# EAGLE library part DRV8833 (library Tranii)
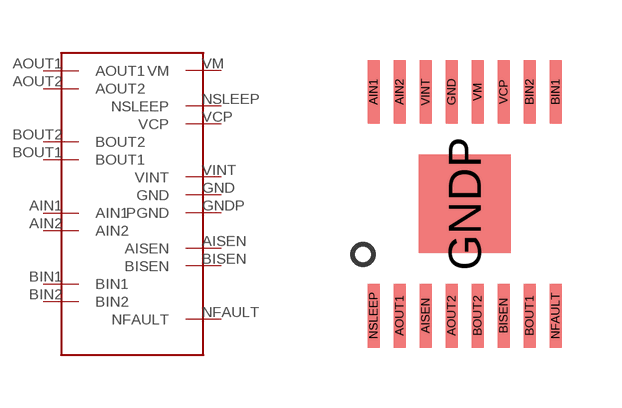
[diagram p1: symbol with the pads of DRV8833; footprint DRV8833]

Designator prefix -

## DRV8833  [DRV8833]
AIN1  AIN1
AIN2  AIN2
AISEN  AISEN
AOUT1  AOUT1
AOUT2  AOUT2
BIN1  BIN1
BIN2  BIN2
BISEN  BISEN
BOUT1  BOUT1
BOUT2  BOUT2
GND  GND
GNDP  PGND
NFAULT  NFAULT
NSLEEP  NSLEEP
VCP  VCP
VINT  VINT
VM  VM

## Footprint DRV8833 (pad centres in mm)
smd 0.3 x 1.6: AIN1 -2.275,2.8; AIN2 -1.625,2.8; AISEN -0.975,-2.8; AOUT1 -1.625,-2.8; AOUT2 -0.325,-2.8; BIN1 2.275,2.8; BIN2 1.625,2.8; BISEN 0.975,-2.8; BOUT1 1.625,-2.8; BOUT2 0.325,-2.8; GND -0.325,2.8; NFAULT 2.275,-2.8; NSLEEP -2.275,-2.8; VCP 0.975,2.8; VINT -0.975,2.8; VM 0.325,2.8
smd 2.31 x 2.46: GNDP 0,0